# Altium schematic symbol library LTSpiceLibrary.SchLib: 9 symbols
Pins are listed as number, name and electrical type; pins without a type are passive.

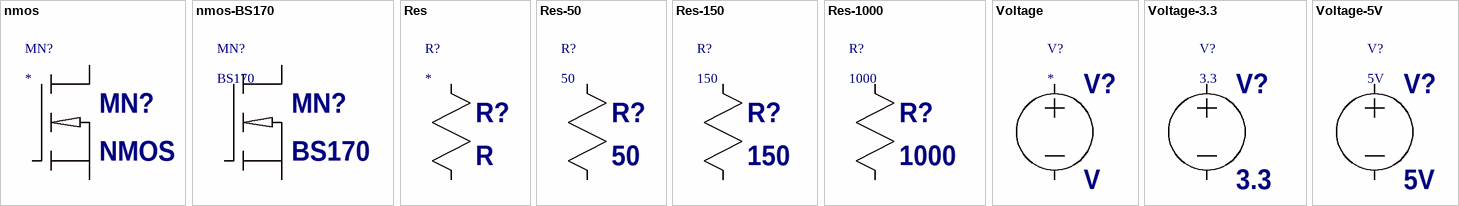
[diagram p0: symbols nmos to Voltage-5V]

## nmos
designator MN?  value NMOS  InstName: MN?
Prefix: MN; Description: N-Channel MOSFET transistor
pins: 1 D, 2 G, 3 S

## nmos-BS170
designator MN?, comment BS170  InstName: MN?
Prefix: MN; Description: N-Channel MOSFET transistor; Value: BS170
simulation model nmos-BS170
pins: 1 D, 2 G, 3 S

## Res
designator R?  value R  InstName: R?
Description: A resistor; Prefix: R
pins: 1 A, 2 B

## Res-50
designator R?, comment 50  InstName: R?
Prefix: R; Description: A resistor; Value: 50
simulation model Res-50
pins: 1 A, 2 B

## Res-150
designator R?, comment 150  InstName: R?
Prefix: R; Description: A resistor; Value: 150
simulation model Res-150
pins: 1 A, 2 B

## Res-1000
designator R?, comment 1000  InstName: R?
Prefix: R; Description: A resistor; Value: 1000
simulation model Res-1000
pins: 1 A, 2 B

## Voltage
designator V?  value V  InstName: V?
SINE voltage source; Description: Voltage Source, either DC, AC, PULSE, SINE, PWL, EXP, or SFFM; Prefix: V
simulation model Voltage
pins: 1 +, 2 -

## Voltage-3.3
designator V?, comment 3.3  InstName: V?
voltage source; Prefix: V; Description: Voltage Source, either DC, AC, PULSE, SINE, PWL, EXP, or SFFM; Value: 3.3
simulation model Voltage-3.3
pins: 1 +, 2 -

## Voltage-5V
designator V?, comment 5V  InstName: V?
voltage source; Prefix: V; Description: Voltage Source, either DC, AC, PULSE, SINE, PWL, EXP, or SFFM; Value: 5V
simulation model Voltage-5V
pins: 1 +, 2 -